# Altium footprint library Modules.PcbLib: 2 footprints
Each footprint in its own frame and in the unit in brackets; x right, y up, seen from the top. Pads: shape width x height; smd on the part's side, far side on the other; paste and mask are expansions set on the pad; w line width, h text height; cw(c..) or ccw(c..) is an arc to the next point about the centre after c.
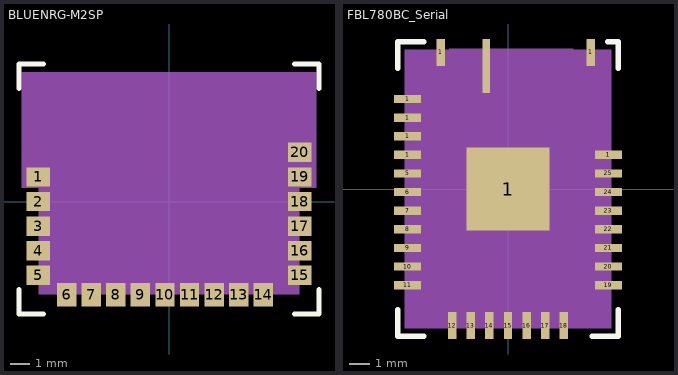
[diagram p0: the footprints below, top view; thin cyan lines are the x and y axes]

## BLUENRG-M2SP [mm]
pads (20):
  rect 1.2x1 smd: 1(-6.75,1.27) 2(-6.75,0) 3(-6.75,-1.27) 4(-6.75,-2.54) 5(-6.75,-3.81) 15(6.75,-3.81) 16(6.75,-2.54) 17(6.75,-1.27) 18(6.75,0) 19(6.75,1.27) 20(6.75,2.54)
  rect 1x1.2 smd: 6(-5.29,-4.81) 7(-4.02,-4.81) 8(-2.75,-4.81) 9(-1.48,-4.81) 10(-0.21,-4.81) 11(1.06,-4.81) 12(2.33,-4.81) 13(3.6,-4.81) 14(4.87,-4.81)
Top Layer:
  region: -0.254,1.448
Top Overlay:
  lines w0.254: -7.747,-4.547 -7.747,-5.817 -6.477,-5.817 ; -7.747,5.842 -7.747,7.112 -6.477,7.112 ; 6.477,-5.817 7.747,-5.817 7.747,-4.547 ; 6.477,7.112 7.747,7.112 7.747,5.842
Mechanical 13:
  rectangle: -7.62,0.7 7.62,6.7
Mechanical 15:
  rectangle: -6.75,-4.81 6.75,6.69

## FBL780BC_Serial [mm]
pads (30):
  rect 1.3x0.4 smd: 1(-4.85,1.65) 1(-4.85,2.55) 1(-4.85,3.45) 1(-4.85,4.35) 1(4.85,1.65) 5(-4.85,0.75) 6(-4.85,-0.15) 7(-4.85,-1.05) 8(-4.85,-1.95) 9(-4.85,-2.85) 10(-4.85,-3.75) 11(-4.85,-4.65) 19(4.85,-4.65) 20(4.85,-3.75) 21(4.85,-2.85) 22(4.85,-1.95) 23(4.85,-1.05) 24(4.85,-0.15) 25(4.85,0.75)
  rect 0.4x1.3 smd: 1(-3.25,6.6) 1(4,6.6) 12(-2.7,-6.6) 13(-1.8,-6.6) 14(-0.9,-6.6) 15(0,-6.6) 16(0.9,-6.6) 17(1.8,-6.6) 18(2.7,-6.6)
  rect 4x4 smd: 1(0,0)
  rect 0.35x2.6 smd: 28(-1.05,5.95)
Top Layer:
  region: -0.254,1.448
Top Overlay:
  lines w0.254: -5.334,-5.842 -5.334,-7.112 -4.064,-7.112 ; -5.334,5.842 -5.334,7.112 -4.064,7.112 ; 4.064,-7.112 5.334,-7.112 5.334,-5.842 ; 4.826,7.112 5.334,7.112 5.334,5.842
Mechanical 13:
  rectangle: -2.845,3.581 3.155,6.781
Mechanical 15:
  rectangle: -5,-6.75 5,6.75